# EAGLE library part ADA4004-4T (library opamps)
ADA4004-4: Quad opamp (Analog Devices) with LFCSP package and thermal pad ±15V, ±10mA, 165nA bias 300µV offset, 12MHz UGF, 1.8nV/rt(Hz) noise
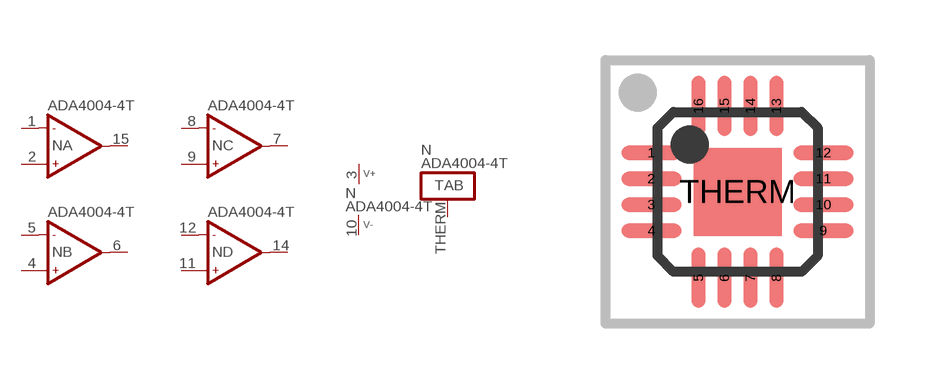
[diagram p278: symbol with the pads of LFCSP16; footprint LFCSP16]

Designator prefix N; gates A=OP-NAME C=OP-NAME B=OP-NAME D=OP-NAME P=V+- T=TAB

## ADA4004-4T  [LFCSP16]
1  A:IN-  in
2  A:IN+  in
3  P:V+  pwr
4  B:IN+  in
5  B:IN-  in
6  B:OUT  out
7  C:OUT  out
8  C:IN-  in
9  C:IN+  in
10  P:V-  pwr
11  D:IN+  in
12  D:IN-  in
14  D:OUT  out
15  A:OUT  out
THERM  T:TAB

## Footprint LFCSP16 (pad centres in mm)
LFCSP-16, SMD package, 16 pins 0.65mm grid
smd 1.5 x 0.35: 1 -2.15,0.975; 2 -2.15,0.325; 3 -2.15,-0.325; 4 -2.15,-0.975; 9 2.15,-0.975; 10 2.15,-0.325; 11 2.15,0.325; 12 2.15,0.975
smd 0.35 x 1.5: 5 -0.975,-2.15; 6 -0.325,-2.15; 7 0.325,-2.15; 8 0.975,-2.15; 13 0.975,2.15; 14 0.325,2.15; 15 -0.325,2.15; 16 -0.975,2.15
smd 2.2 x 2.2: THERM 0,0